# Altium footprint library PCB - Interface - 8-MSOP  - LTC4303IMS8#PBF.PcbLib: 1 footprints
Each footprint in its own frame and in the unit in brackets; x right, y up, seen from the top. Pads: shape width x height; smd on the part's side, far side on the other; paste and mask are expansions set on the pad; w line width, h text height; cw(c..) or ccw(c..) is an arc to the next point about the centre after c.
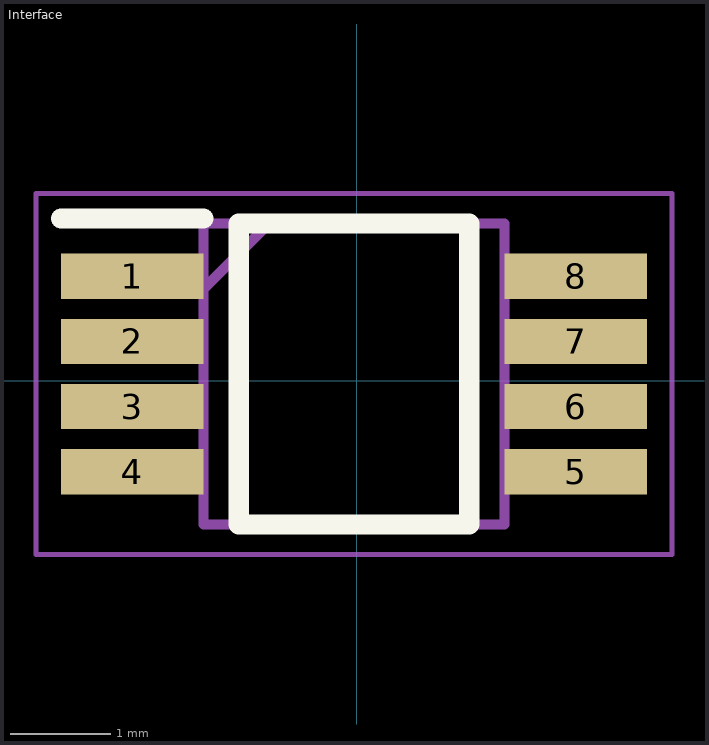
[diagram p0: the footprint, top view; thin cyan lines are the x and y axes]

## Interface [mm]
pads (8):
  rect 1.425x0.45 smd: 1(-2.238,1.043) 2(-2.238,0.393) 3(-2.238,-0.257) 4(-2.238,-0.907) 5(2.186,-0.907) 6(2.186,-0.257) 7(2.186,0.393) 8(2.186,1.043)
Top Overlay:
  lines w0.2: -2.951,1.618 -1.526,1.618 ; -1.176,-1.432 1.124,-1.432 1.124,1.568 -1.176,1.568 -1.176,-1.432
Mechanical 13:
  lines w0.1: -1.526,0.918 -0.876,1.568 ; -1.526,-1.432 1.474,-1.432 1.474,1.568 -1.526,1.568 -1.526,-1.432
Mechanical 15:
  lines w0.05: -3.201,-1.733 3.149,-1.733 3.149,1.869 -3.201,1.869 -3.201,-1.733
3D body "LTC4303IMS8#PBF.stp": height 1.1, standoff 0, extent -2.476,-1.432 2.424,1.568